# Altium schematic symbol library LED.Schlib: 1 symbol
Pins are listed as number, name and electrical type; pins without a type are passive.

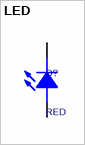
[diagram p0: symbol LED]

## LED
designator D?, comment RED
Light Emitting Diode; Designer: Abbas Basereh; Data: 16-12-2016; Link: *; Part.No: *
footprint LED_5mm (LED 5MM THROUGH HOLE)
footprint LED0805
footprint LED3mm_P2.54_G
pins: 1 ANODE, 2 CATHODE